# Altium schematic symbol library Oscillators.SchLib: 2 symbols
Pins are listed as number, name and electrical type; pins without a type are passive.

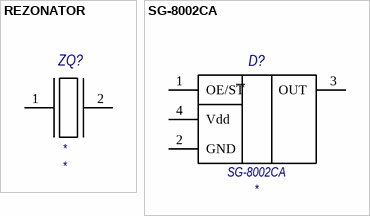
[diagram p0: symbols REZONATOR to SG-8002CA]

## REZONATOR
designator ZQ?
Crystal; Type: *; Value: *
footprint HC49/4H SMX CRYSTALS (SMX crystals)
footprint CM7V-T1A (Watch Crystal)
pins: 1, 2

## SG-8002CA
designator D?  Type: SG-8002CA  (hidden comment: *)
Oscillator; Value: *
footprint Oscillator
pins: 1 OE/S~{T}, 2 GND, 3 OUT, 4 Vdd